# Altium footprint library MSOP-10_MS_LIT-M.PcbLib: 1 footprints
Each footprint in its own frame and in the unit in brackets; x right, y up, seen from the top. Pads: shape width x height; smd on the part's side, far side on the other; paste and mask are expansions set on the pad; w line width, h text height; cw(c..) or ccw(c..) is an arc to the next point about the centre after c.
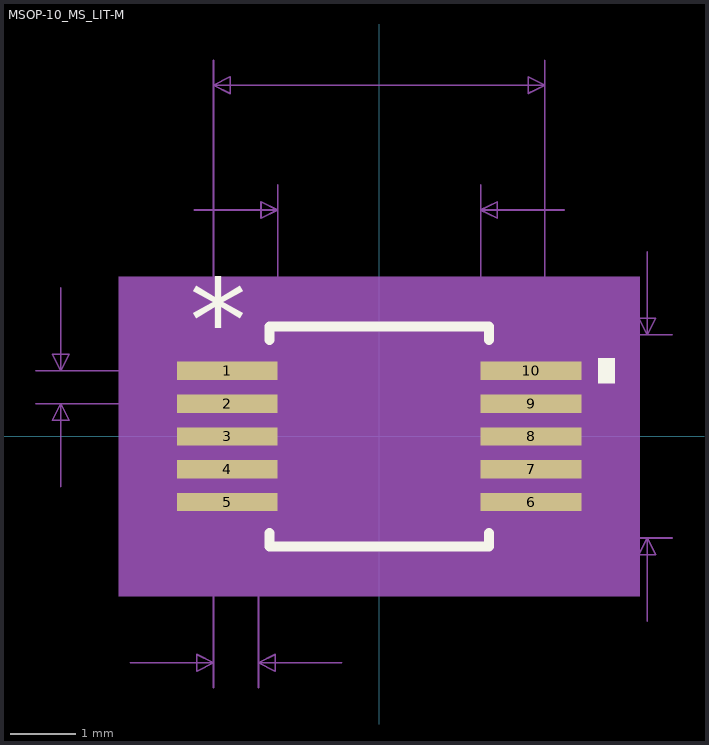
[diagram p0: the footprint, top view; thin cyan lines are the x and y axes]

## MSOP-10_MS_LIT-M [mil]
pads (10):
  rect 60.5x11 smd paste+0 mask+0: 1(-91.25,39.4) 2(-91.25,19.7) 3(-91.25,0) 4(-91.25,-19.7) 5(-91.25,-39.4) 6(91.25,-39.4) 7(91.25,-19.7) 8(91.25,0) 9(91.25,19.7) 10(91.25,39.4)
Top Overlay:
  region: 131.5,46.9 141.5,46.9 141.5,31.9 131.5,31.9
  lines w6: -66,-58 -66,-66 66,-66 66,-58 ; -66,58 -66,66 66,66 66,58
  text "*" at -113.75,45.4 h50
Mechanical 5:
  region: 156.5,-96 -156.5,-96 -156.5,96 156.5,96
Mechanical 7:
  lines w1: -206.25,19.7 -91.25,19.7 ; -206.25,39.4 -91.25,39.4 ; -191.25,-30.3 -191.25,19.7 ; -191.25,89.4 -191.25,39.4 ; -149.5,-136 -99.5,-136 ; -111,136 -61,136 ; -99.5,-151 -99.5,0 -99.5,226 ; -72.5,-151 -72.5,0 ; -61,0 -61,151 ; -22.5,-136 -72.5,-136 ; 0,-61 176,-61 ; 0,61 176,61 ; 61,0 61,151 ; 99.5,0 99.5,226 ; 111,136 61,136 ; 161,-111 161,-61 ; 161,111 161,61 ; -191.25,19.7 -186.25,9.7 -196.25,9.7 -191.25,19.7 ; -191.25,39.4 -186.25,49.4 -196.25,49.4 -191.25,39.4 ; -99.5,-136 -109.5,-141 -109.5,-131 -99.5,-136 ; -99.5,211 -89.5,206 -89.5,216 -99.5,211 ; -99.5,211 99.5,211 ; -72.5,-136 -62.5,-141 -62.5,-131 -72.5,-136 ; -61,136 -71,131 -71,141 -61,136 ; 61,136 71,131 71,141 61,136 ; 99.5,211 89.5,206 89.5,216 99.5,211 ; 161,-61 166,-71 156,-71 161,-61 ; 161,61 166,71 156,71 161,61
  text "0.027in/0.686mm" at -179.75,-181 h25
  text "0.02in/0.5mm" at -361.25,17.05 h25
  text "0.122in/3.099mm" at 181,-12.5 h25
  text "0.199in/5.055mm" at -93.75,231 h25
  text "0.122in/3.099mm" at -93.75,156 h25
  text "Alt 2 Padstyle: OX90Y60D30P" at -337.5,-561 h50
  text "Alt 1 Padstyle: OX60Y90D30P" at -337.5,-501 h50
  text "Pin One Padstyle: RX60p5Y11D0T" at -375,-321 h50
  text "Default Padstyle: RX60p5Y11D0T" at -375,-261 h50
Mechanical 13:
  lines w0: -12,61 ccw(c0,61) 12,61
  lines w1: -99.5,-44.9 -61,-44.9 -61,-33.9 -99.5,-33.9 -99.5,-44.9 ; -99.5,-25.2 -61,-25.2 -61,-14.2 -99.5,-14.2 -99.5,-25.2 ; -99.5,-5.5 -61,-5.5 -61,5.5 -99.5,5.5 -99.5,-5.5 ; -99.5,14.2 -61,14.2 -61,25.2 -99.5,25.2 -99.5,14.2 ; -99.5,33.9 -61,33.9 -61,44.9 -99.5,44.9 -99.5,33.9 ; -61,-61 -61,61 61,61 61,-61 -61,-61 ; 61,-44.9 99.5,-44.9 99.5,-33.9 61,-33.9 61,-44.9 ; 61,-25.2 99.5,-25.2 99.5,-14.2 61,-14.2 61,-25.2 ; 61,-5.5 99.5,-5.5 99.5,5.5 61,5.5 61,-5.5 ; 61,14.2 99.5,14.2 99.5,25.2 61,25.2 61,14.2 ; 61,33.9 99.5,33.9 99.5,44.9 61,44.9 61,33.9
  text "*" at -58.5,8 h50
Mechanical 15:
  region: -81,-64.9 -141.5,-64.9 -141.5,64.9 -81,64.9 -81,81 81,81 81,64.9 141.5,64.9 141.5,-64.9 81,-64.9 81,-81 -81,-81
  lines w6: -141.5,-64.9 -81,-64.9 -81,-81 81,-81 81,-64.9 141.5,-64.9 141.5,64.9 81,64.9 81,81 -81,81 -81,64.9 -141.5,64.9 -141.5,-64.9
3D body "msop-10.SLDPRT": height 39.87, standoff -5.4, extent -96.46,-59.06 96.46,59.06